# Altium footprint library AG.Misc.PcbLib: 13 footprints
Each footprint in its own frame and in the unit in brackets; x right, y up, seen from the top. Pads: shape width x height; smd on the part's side, far side on the other; paste and mask are expansions set on the pad; w line width, h text height; cw(c..) or ccw(c..) is an arc to the next point about the centre after c.
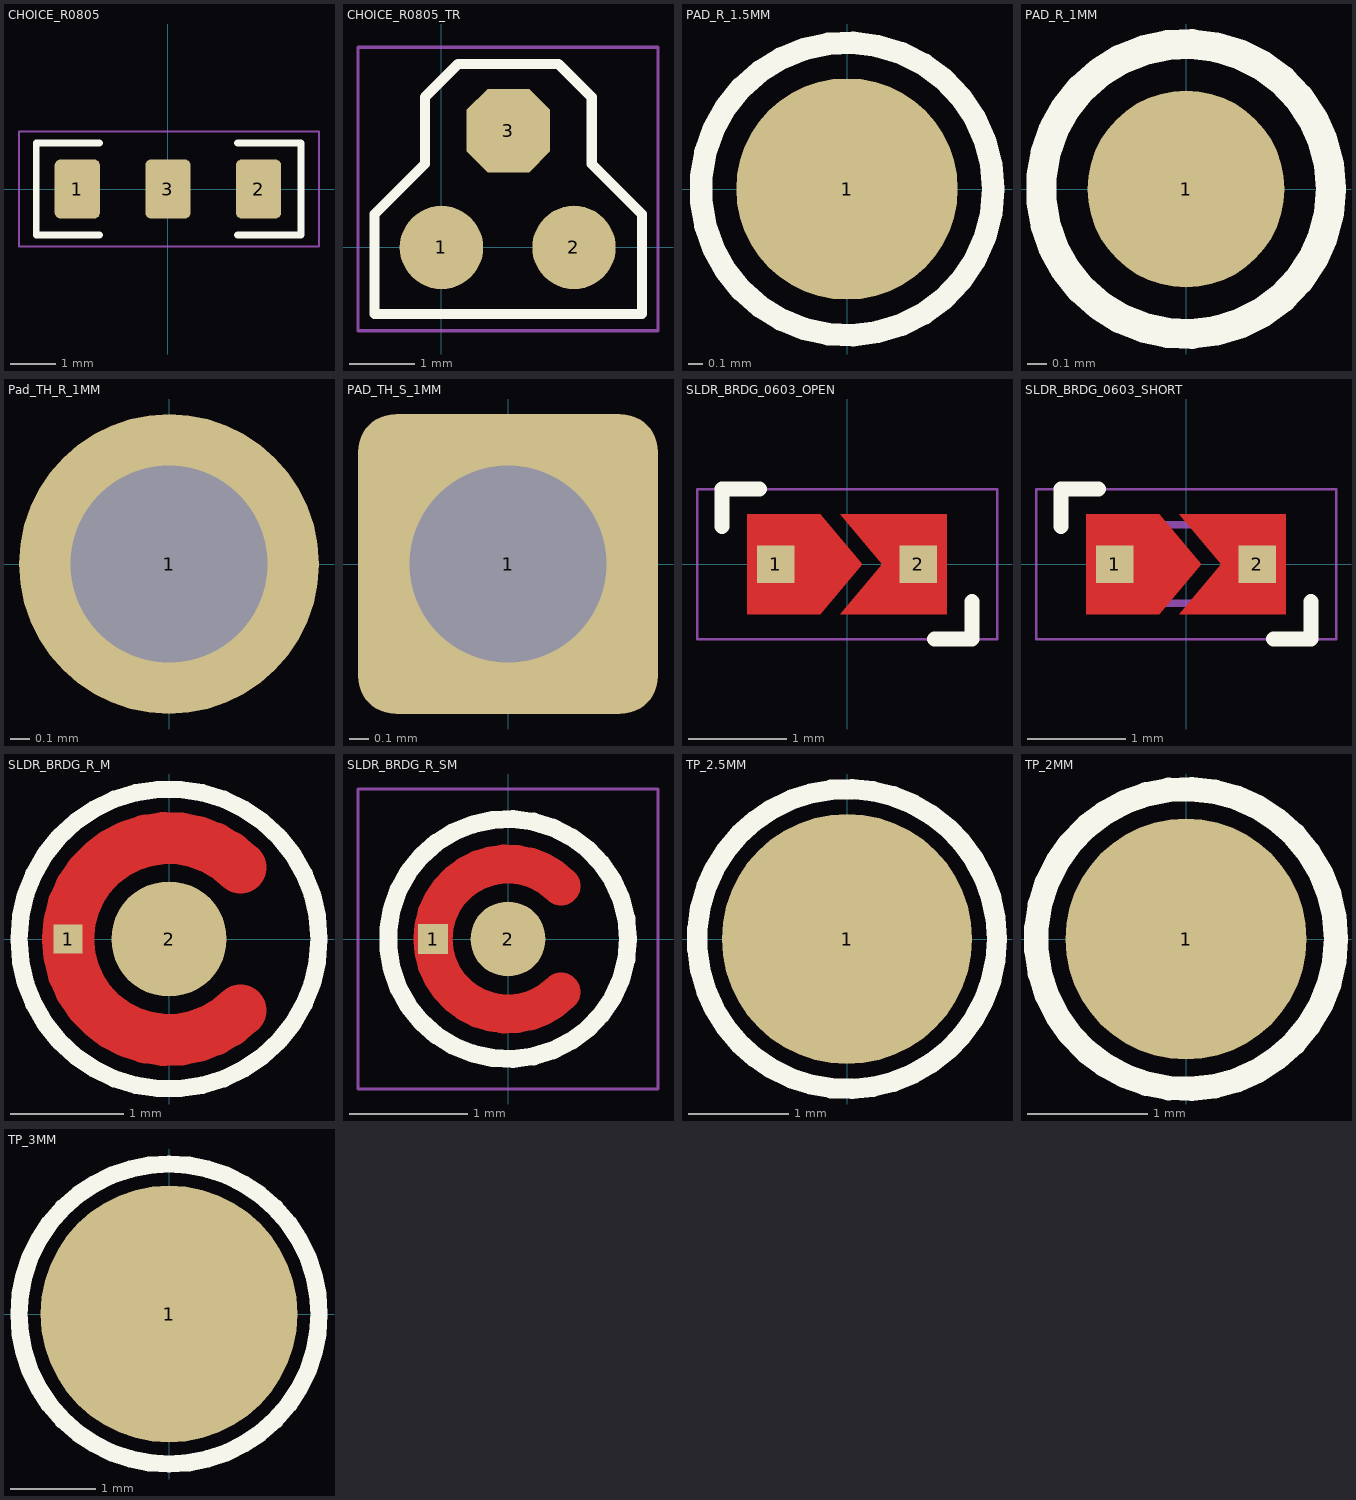
[diagram p0: the footprints below, top view; thin cyan lines are the x and y axes]

## CHOICE_R0805 [mm]
pads (3):
  rrect25% 1x1.3 smd: 1(-2,0) 2(2,0) 3(0,0)
Top Overlay:
  lines w0.152: -1.508,-1.016 -2.905,-1.016 -2.905,1.016 -1.508,1.016 ; 1.54,-1.016 2.937,-1.016 2.937,1.016 1.54,1.016
Mechanical 15:
  lines w0.051: -0.254,0 0.254,0 ; 0,-0.254 0,0.254 ; -3.286,-1.27 -3.286,1.27 3.334,1.27 3.334,-1.27 -3.286,-1.27

## CHOICE_R0805_TR [mil]
pads (3):
  round 50 smd: 1(0,0) 2(79.37,0.01)
  oct 50x50 smd: 3(40,70)
Top Overlay:
  lines w6: -40,-40 -40,20 -10,50 -10,90 10,110 70,110 90,90 90,50 120,20 120,-40 -40,-40
Mechanical 15:
  lines w2: 68.74,0 88.74,0 ; 78.74,-10 78.74,10 ; -50,-50 -50,120 129.69,120 129.69,-50 -50,-50

## PAD_R_1.5MM [mm] "Pad Rounded 1.5mm"
pads (1):
  round 1.5 smd paste-10: 1(0,0)
Top Overlay:
  circle w0.152: c0,0 r0.991
Mechanical 13:
  circle w0.076: c0,0 r1.016

## PAD_R_1MM [mm] "Pad Rounded 1mm"
pads (1):
  round 1 smd paste-10: 1(0,0)
Top Overlay:
  circle w0.152: c0,0 r0.737
Mechanical 13:
  circle w0.076: c0,0 r0.762

## Pad_TH_R_1MM [mil] "Through-Hole Rounded Pad"
pads (1):
  round 60 hole 39.37: 1(0,0)

## PAD_TH_S_1MM [mil] "Through-Hole Square Pad"
pads (1):
  rrect25% 60x60 hole 39.37: 1(0,0)

## SLDR_BRDG_0603_OPEN [mil] "Solder Bridge / Resistor SMD 0603 (Open)"
pads (2):
  rect 15x15 smd mask-100: 1(-28.54,0) 2(28.54,0)
Top Layer:
  region: -2.67,20 14,0 -2.67,-20 40,-20 40,20
  region: -40,20 -10.67,20 6,0 -10.67,-20 -40,-20
Top Overlay:
  lines w6: -50,15 -50,30 -35,30 ; 35,-30 50,-30 50,-15
Mechanical 15:
  lines w1: -5,0 5,0 ; 0,-5 0,5 ; -60,-30 60,-30 60,30 -60,30 -60,-30

## SLDR_BRDG_0603_SHORT [mil] "Solder Bridge / Resistor SMD 0603 (Soldered)"
pads (2):
  rect 15x15 smd mask-100: 1(-28.54,0) 2(28.54,0)
Top Layer:
  region: -2.67,20 14,0 -2.67,-20 40,-20 40,20
  region: -40,20 -10.67,20 6,0 -10.67,-20 -40,-20
Top Overlay:
  lines w6: -50,15 -50,30 -35,30 ; 35,-30 50,-30 50,-15
Mechanical 13:
  lines w3: -31.5,-15.74 -31.5,15.75 31.5,15.75 31.5,-15.74 -31.5,-15.74
Mechanical 15:
  lines w1: -5,0 5,0 ; 0,-5 0,5 ; -60,-30 60,-30 60,30 -60,30 -60,-30
3D body "Resistor_SMD_0603.step": height 17.83, standoff 0.11, extent -31.5,-15.74 31.5,15.75

## SLDR_BRDG_R_M [mil]
pads (2):
  rect 10x10 smd: 1(-35,0)
  round 40 smd: 2(0,0)
Top Layer:
  lines w18: 24.75,-24.75 cw(c0,0) 24.75,24.75
Top Overlay:
  circle w6: c0,0 r52

## SLDR_BRDG_R_SM [mil]
pads (2):
  rect 10x10 smd: 1(-25,0)
  round 25 smd: 2(0,0)
Top Layer:
  lines w13: 17.68,-17.68 cw(c0,0) 17.68,17.68
Top Overlay:
  circle w6: c0,0 r40
Mechanical 15:
  lines w1: -50,-50 50,-50 50,50 -50,50 -50,-50

## TP_2.5MM [mm] "Test Point 2.5mm"
pads (1):
  round 2.5 smd paste-10: 1(0,0)
Top Overlay:
  circle w0.203: c0,0 r1.499

## TP_2MM [mm] "Test Point 2mm"
pads (1):
  round 2 smd paste-10: 1(0,0)
Top Overlay:
  circle w0.203: c0,0 r1.245

## TP_3MM [mm] "Test Point 3mm"
pads (1):
  round 3 smd paste-10: 1(0,0)
Top Overlay:
  circle w0.203: c0,0 r1.753